# Altium integrated library TI Power Management Linear Regulator Single Channel LDO (0-350mA).IntLib: 1648 symbols (part 15 of 66)
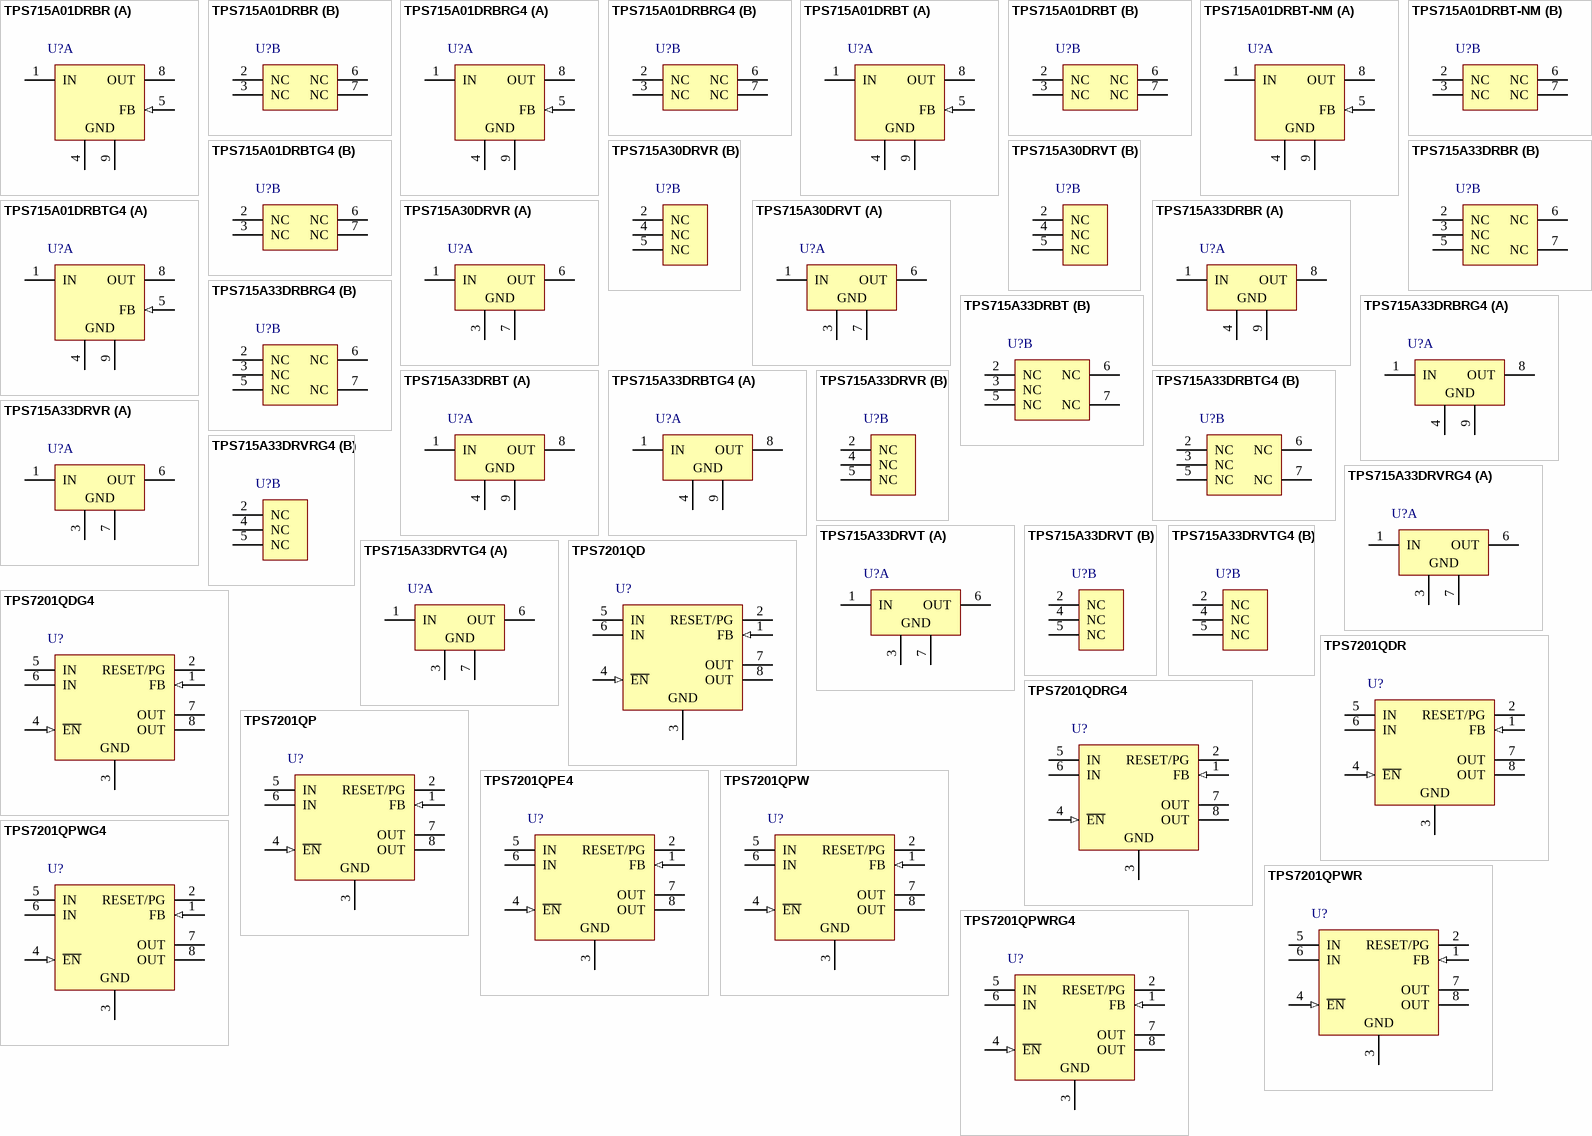
[diagram p56: symbols TPS715A01DRBR to TPS7201QPWRG4]

## TPS7201QPW
designator U?
Single Output LDO, 250 mA, Adjustable 1.2 to 9.75 V Output, 3 to 10 V Input, with Power Good Status Output, 8-pin TSSOP (PW), -40 to 125 degC, Green (RoHS & no Sb/Br); Manufacturer: Texas Instruments; PartNumber: TPS7201QPW; Iout(Max)(A): 0.25; Iq(Typ)(mA): 0.18; Power Good: TRUE; SubFamily: Single Channel LDO; Vdo(Typ)(mV): 190; Vin(Max)(V): 10; Vin(Min)(V): 3; Vout Adj(Max)(V): 9.75; Vout Adj(Min)(V): 1.2; DatasheetVersion: SLVS102G; PackageVersion: 4040064-2/G; PackageReference: PW8; PackageDescription: 8-Pin Plastic Small Outline, Body 4.4 x 3 mm, Pitch 0.65 mm; Supplier 1: Digi-Key; Supplier Part Number 1: TPS7201QPW-ND; Supplier 2: Mouser; Supplier Part Number 2: 595-TPS7201QPW; Eco-Plan: Green (RoHS & no Sb/Br); Mounting Technology: Surface Mount; Code_JEDEC: MO-153; ComponentLink1Description: Manufacturer URL; ComponentLink1URL: http://www.ti.com/; ComponentLink2Description: Datasheet; ComponentLink2URL: http://www.ti.com/general/docs/lit/getliterature.tsp?genericPartNumber=TPS7201&fileType=pdf; ComponentLink3Description: Package Specification; ComponentLink3URL: http://www.ti.com/litv/pdf/mtss001d
footprint TI-PW8_N (SOP, 8-Leads, Body 4.4x3mm, Pitch 0.65mm, IPC Medium Density)
footprint TI-PW8_L (SOP, 8-Leads, Body 4.4x3mm, Pitch 0.65mm, IPC High Density)
footprint TI-PW8_M (SOP, 8-Leads, Body 4.4x3mm, Pitch 0.65mm, IPC Low Density)
pins: 1 FB (in), 2 RESET/PG (oc), 3 GND (power), 4 ~{EN} (in), 5 IN (power), 6 IN (power), 7 OUT (power), 8 OUT (power)

## TPS7201QPWG4
designator U?
Single Output LDO, 250 mA, Adjustable 1.2 to 9.75 V Output, 3 to 10 V Input, with Power Good Status Output, 8-pin TSSOP (PW), -40 to 125 degC, Green (RoHS & no Sb/Br); Manufacturer: Texas Instruments; PartNumber: TPS7201QPWG4; Iout(Max)(A): 0.25; Iq(Typ)(mA): 0.18; Power Good: TRUE; SubFamily: Single Channel LDO; Vdo(Typ)(mV): 190; Vin(Max)(V): 10; Vin(Min)(V): 3; Vout Adj(Max)(V): 9.75; Vout Adj(Min)(V): 1.2; DatasheetVersion: SLVS102G; PackageVersion: 4040064-2/G; PackageReference: PW8; PackageDescription: 8-Pin Plastic Small Outline, Body 4.4 x 3 mm, Pitch 0.65 mm; Supplier 1: Digi-Key; Supplier Part Number 1: TPS7201QPWG4-ND; Supplier 2: Newark; Supplier Part Number 2: 67K8657; Supplier 3: Mouser; Supplier Part Number 3: 595-TPS7201QPWG4; Eco-Plan: Green (RoHS & no Sb/Br); Mounting Technology: Surface Mount; Code_JEDEC: MO-153; ComponentLink1Description: Manufacturer URL; ComponentLink1URL: http://www.ti.com/; ComponentLink2Description: Datasheet; ComponentLink2URL: http://www.ti.com/general/docs/lit/getliterature.tsp?genericPartNumber=TPS7201&fileType=pdf; ComponentLink3Description: Package Specification; ComponentLink3URL: http://www.ti.com/litv/pdf/mtss001d
footprint TI-PW8_N (SOP, 8-Leads, Body 4.4x3mm, Pitch 0.65mm, IPC Medium Density)
footprint TI-PW8_L (SOP, 8-Leads, Body 4.4x3mm, Pitch 0.65mm, IPC High Density)
footprint TI-PW8_M (SOP, 8-Leads, Body 4.4x3mm, Pitch 0.65mm, IPC Low Density)
pins: 1 FB (in), 2 RESET/PG (oc), 3 GND (power), 4 ~{EN} (in), 5 IN (power), 6 IN (power), 7 OUT (power), 8 OUT (power)

## TPS7201QPWR
designator U?
Single Output LDO, 250 mA, Adjustable 1.2 to 9.75 V Output, 3 to 10 V Input, with Power Good Status Output, 8-pin TSSOP (PW), -40 to 125 degC, Green (RoHS & no Sb/Br); Manufacturer: Texas Instruments; PartNumber: TPS7201QPWR; Iout(Max)(A): 0.25; Iq(Typ)(mA): 0.18; Power Good: TRUE; SubFamily: Single Channel LDO; Vdo(Typ)(mV): 190; Vin(Max)(V): 10; Vin(Min)(V): 3; Vout Adj(Max)(V): 9.75; Vout Adj(Min)(V): 1.2; DatasheetVersion: SLVS102G; PackageVersion: 4040064-2/G; PackageReference: PW8; PackageDescription: 8-Pin Plastic Small Outline, Body 4.4 x 3 mm, Pitch 0.65 mm; Supplier 1: Digi-Key; Supplier Part Number 1: 296-8053-2-ND; Supplier 2: Digi-Key; Supplier Part Number 2: 296-8053-1-ND; Supplier 3: Digi-Key; Supplier Part Number 3: 296-8053-6-ND; Supplier 4: Newark; Supplier Part Number 4: 77C0817; Supplier 5: Mouser; Supplier Part Number 5: 595-TPS7201QPWR; Eco-Plan: Green (RoHS & no Sb/Br); Mounting Technology: Surface Mount; Code_JEDEC: MO-153; ComponentLink1Description: Manufacturer URL; ComponentLink1URL: http://www.ti.com/; ComponentLink2Description: Datasheet; ComponentLink2URL: http://www.ti.com/general/docs/lit/getliterature.tsp?genericPartNumber=TPS7201&fileType=pdf; ComponentLink3Description: Package Specification; ComponentLink3URL: http://www.ti.com/litv/pdf/mtss001d
footprint TI-PW8_N (SOP, 8-Leads, Body 4.4x3mm, Pitch 0.65mm, IPC Medium Density)
footprint TI-PW8_L (SOP, 8-Leads, Body 4.4x3mm, Pitch 0.65mm, IPC High Density)
footprint TI-PW8_M (SOP, 8-Leads, Body 4.4x3mm, Pitch 0.65mm, IPC Low Density)
pins: 1 FB (in), 2 RESET/PG (oc), 3 GND (power), 4 ~{EN} (in), 5 IN (power), 6 IN (power), 7 OUT (power), 8 OUT (power)

## TPS7201QPWRG4
designator U?
Single Output LDO, 250 mA, Adjustable 1.2 to 9.75 V Output, 3 to 10 V Input, with Power Good Status Output, 8-pin TSSOP (PW), -40 to 125 degC, Green (RoHS & no Sb/Br); Manufacturer: Texas Instruments; PartNumber: TPS7201QPWRG4; Iout(Max)(A): 0.25; Iq(Typ)(mA): 0.18; Power Good: TRUE; SubFamily: Single Channel LDO; Vdo(Typ)(mV): 190; Vin(Max)(V): 10; Vin(Min)(V): 3; Vout Adj(Max)(V): 9.75; Vout Adj(Min)(V): 1.2; DatasheetVersion: SLVS102G; PackageVersion: 4040064-2/G; PackageReference: PW8; PackageDescription: 8-Pin Plastic Small Outline, Body 4.4 x 3 mm, Pitch 0.65 mm; Supplier 1: Digi-Key; Supplier Part Number 1: TPS7201QPWRG4-ND; Supplier 2: Mouser; Supplier Part Number 2: 595-TPS7201QPWRG4; Eco-Plan: Green (RoHS & no Sb/Br); Mounting Technology: Surface Mount; Code_JEDEC: MO-153; ComponentLink1Description: Manufacturer URL; ComponentLink1URL: http://www.ti.com/; ComponentLink2Description: Datasheet; ComponentLink2URL: http://www.ti.com/general/docs/lit/getliterature.tsp?genericPartNumber=TPS7201&fileType=pdf; ComponentLink3Description: Package Specification; ComponentLink3URL: http://www.ti.com/litv/pdf/mtss001d
footprint TI-PW8_N (SOP, 8-Leads, Body 4.4x3mm, Pitch 0.65mm, IPC Medium Density)
footprint TI-PW8_L (SOP, 8-Leads, Body 4.4x3mm, Pitch 0.65mm, IPC High Density)
footprint TI-PW8_M (SOP, 8-Leads, Body 4.4x3mm, Pitch 0.65mm, IPC Low Density)
pins: 1 FB (in), 2 RESET/PG (oc), 3 GND (power), 4 ~{EN} (in), 5 IN (power), 6 IN (power), 7 OUT (power), 8 OUT (power)

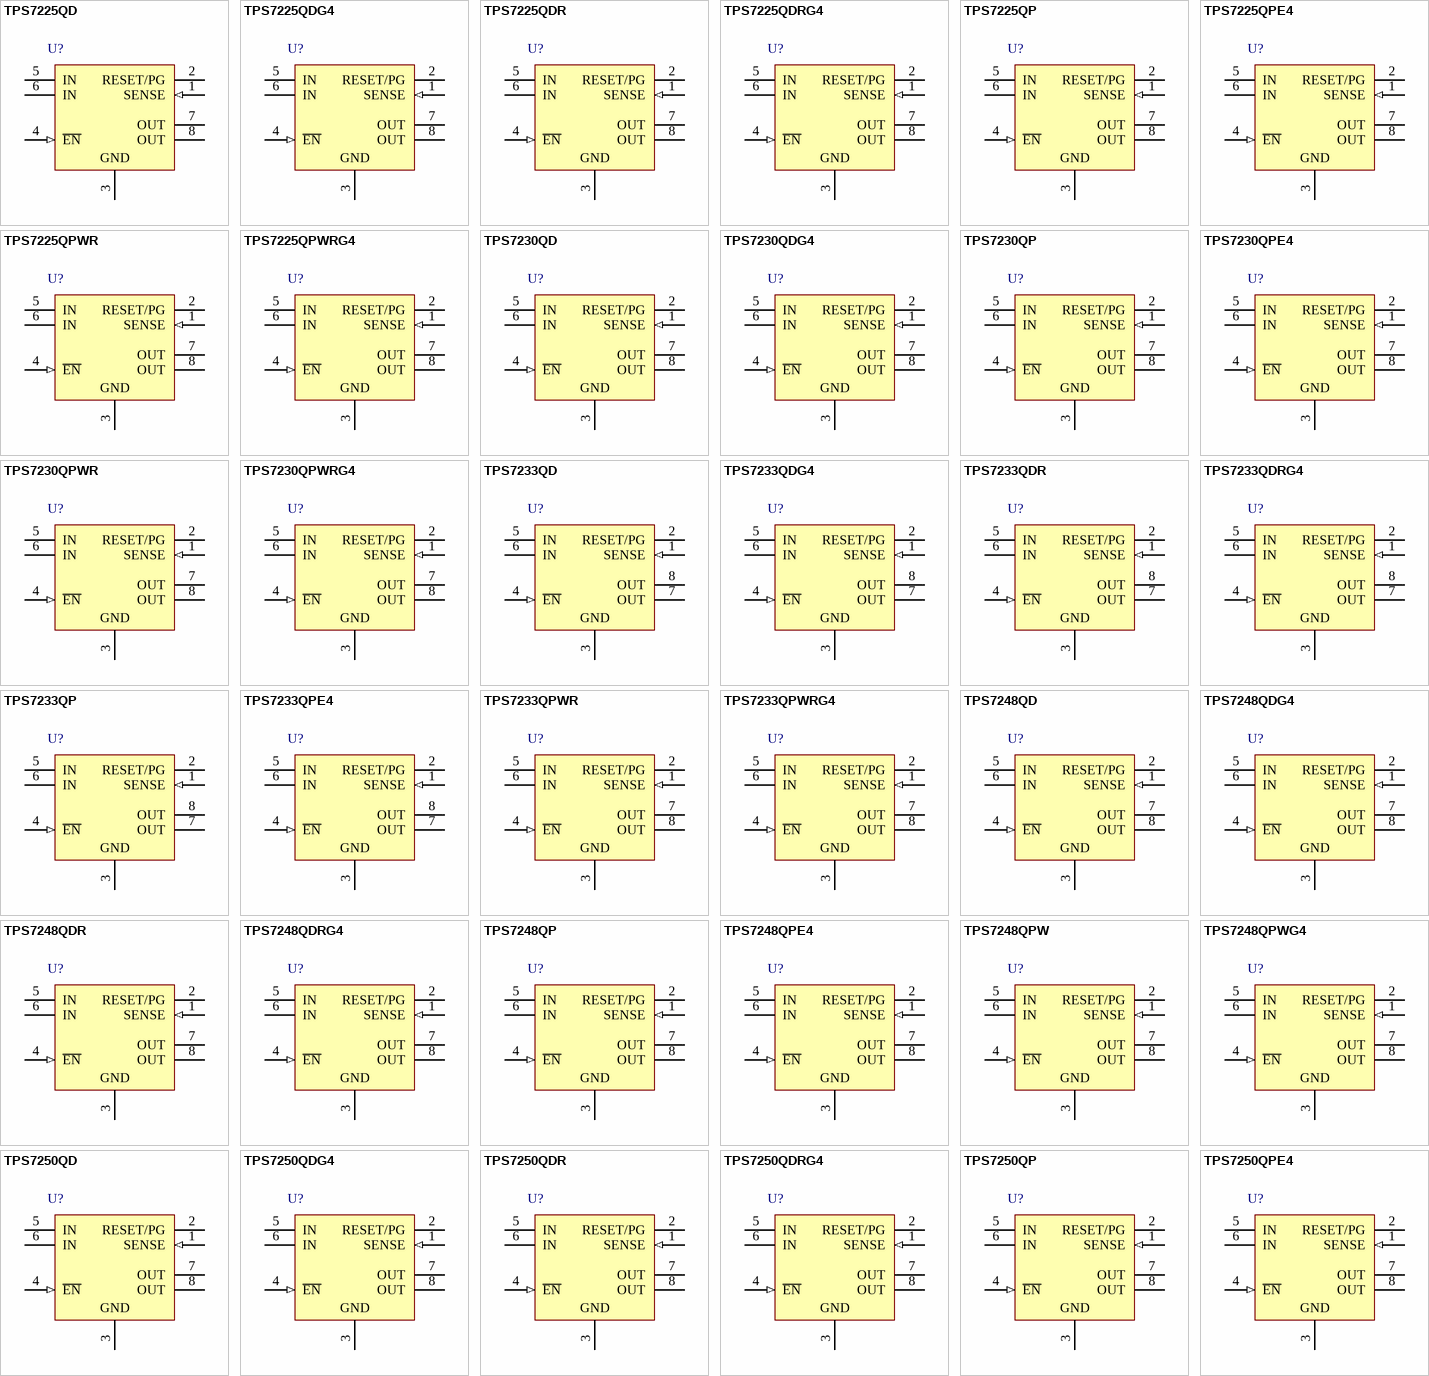
[diagram p10: symbols TPS7225QD to TPS7250QPE4]

## TPS7225QD
designator U?
Single Output LDO, 250 mA, Fixed 2.5 V Output, 3.65 to 10 V Input, with Low IQ, 8-pin SOIC (D), -55 to 150 degC, Green (RoHS & no Sb/Br); Manufacturer: Texas Instruments; PartNumber: TPS7225QD; Fixed Output Options(V): 2.5; Iout(Max)(A): 0.25; Iq(Typ)(mA): 0.18; Power Good: TRUE; Rating: Catalog; SubFamily: Single Channel LDO; Vdo(Typ)(mV): 560; Vin(Max)(V): 10; Vin(Min)(V): 3.65; DatasheetVersion: SLVS102G; PackageVersion: 4040047-3/M; PackageReference: D8; PackageDescription: 8-Pin Plastic Small Outline, Body 4.9 x 3.9 mm, Pitch 1.27 mm; Supplier 1: Digi-Key; Supplier Part Number 1: 296-1962-5-ND; Supplier 2: Newark; Supplier Part Number 2: 20M5896; Supplier 3: Mouser; Supplier Part Number 3: 595-TPS7225QD; Eco-Plan: Green (RoHS & no Sb/Br); Vout Adj(Max)(V): 2.5; Vout Adj(Min)(V): 2.5; Mounting Technology: Surface Mount; Code_JEDEC: MS-012; ComponentLink1Description: Manufacturer URL; ComponentLink1URL: http://www.ti.com/; ComponentLink2Description: Datasheet; ComponentLink2URL: http://www.ti.com/general/docs/lit/getliterature.tsp?genericPartNumber=TPS7225&fileType=pdf; ComponentLink3Description: Package Specification; ComponentLink3URL: http://www.ti.com/litv/pdf/msoi002j; ComponentLink4Description: URL Link1; ComponentLink4URL: Samples URL:http://www.ti.com/product/tps7225#samples
footprint TI-D8_N (SOIC, 8-Leads, Body 4.9x3.9mm, Pitch 1.27mm, IPC Medium Density)
footprint TI-D8_L (SOIC, 8-Leads, Body 4.9x3.9mm, Pitch 1.27mm, IPC High Density)
footprint TI-D8_M (SOIC, 8-Leads, Body 4.9x3.9mm, Pitch 1.27mm, IPC Low Density)
pins: 1 SENSE (in), 2 RESET/PG (oc), 3 GND (power), 4 ~{EN} (in), 5 IN (power), 6 IN (power), 7 OUT (power), 8 OUT (power)

## TPS7225QDG4
designator U?
Single Output LDO, 250 mA, Fixed 2.5 V Output, 3.65 to 10 V Input, with Low IQ, 8-pin SOIC (D), -55 to 150 degC, Green (RoHS & no Sb/Br); Manufacturer: Texas Instruments; PartNumber: TPS7225QDG4; Fixed Output Options(V): 2.5; Iout(Max)(A): 0.25; Iq(Typ)(mA): 0.18; Power Good: TRUE; Rating: Catalog; SubFamily: Single Channel LDO; Vdo(Typ)(mV): 560; Vin(Max)(V): 10; Vin(Min)(V): 3.65; DatasheetVersion: SLVS102G; PackageVersion: 4040047-3/M; PackageReference: D8; PackageDescription: 8-Pin Plastic Small Outline, Body 4.9 x 3.9 mm, Pitch 1.27 mm; Supplier 1: Digi-Key; Supplier Part Number 1: TPS7225QDG4-ND; Supplier 2: Mouser; Supplier Part Number 2: 595-TPS7225QDG4; Eco-Plan: Green (RoHS & no Sb/Br); Vout Adj(Max)(V): 2.5; Vout Adj(Min)(V): 2.5; Mounting Technology: Surface Mount; Code_JEDEC: MS-012; ComponentLink1Description: Manufacturer URL; ComponentLink1URL: http://www.ti.com/; ComponentLink2Description: Datasheet; ComponentLink2URL: http://www.ti.com/general/docs/lit/getliterature.tsp?genericPartNumber=TPS7225&fileType=pdf; ComponentLink3Description: Package Specification; ComponentLink3URL: http://www.ti.com/litv/pdf/msoi002j; ComponentLink4Description: URL Link1; ComponentLink4URL: Samples URL:http://www.ti.com/product/tps7225#samples
footprint TI-D8_N (SOIC, 8-Leads, Body 4.9x3.9mm, Pitch 1.27mm, IPC Medium Density)
footprint TI-D8_L (SOIC, 8-Leads, Body 4.9x3.9mm, Pitch 1.27mm, IPC High Density)
footprint TI-D8_M (SOIC, 8-Leads, Body 4.9x3.9mm, Pitch 1.27mm, IPC Low Density)
pins: 1 SENSE (in), 2 RESET/PG (oc), 3 GND (power), 4 ~{EN} (in), 5 IN (power), 6 IN (power), 7 OUT (power), 8 OUT (power)

## TPS7225QDR
designator U?
Single Output LDO, 250 mA, Fixed 2.5 V Output, 3.65 to 10 V Input, with Low IQ, 8-pin SOIC (D), -55 to 150 degC, Green (RoHS & no Sb/Br); Manufacturer: Texas Instruments; PartNumber: TPS7225QDR; Fixed Output Options(V): 2.5; Iout(Max)(A): 0.25; Iq(Typ)(mA): 0.18; Power Good: TRUE; Rating: Catalog; SubFamily: Single Channel LDO; Vdo(Typ)(mV): 560; Vin(Max)(V): 10; Vin(Min)(V): 3.65; DatasheetVersion: SLVS102G; PackageVersion: 4040047-3/M; PackageReference: D8; PackageDescription: 8-Pin Plastic Small Outline, Body 4.9 x 3.9 mm, Pitch 1.27 mm; Supplier 1: Digi-Key; Supplier Part Number 1: TPS7225QDR-ND; Supplier 2: Mouser; Supplier Part Number 2: 595-TPS7225QDR; Eco-Plan: Green (RoHS & no Sb/Br); Vout Adj(Max)(V): 2.5; Vout Adj(Min)(V): 2.5; Mounting Technology: Surface Mount; Code_JEDEC: MS-012; ComponentLink1Description: Manufacturer URL; ComponentLink1URL: http://www.ti.com/; ComponentLink2Description: Datasheet; ComponentLink2URL: http://www.ti.com/general/docs/lit/getliterature.tsp?genericPartNumber=TPS7225&fileType=pdf; ComponentLink3Description: Package Specification; ComponentLink3URL: http://www.ti.com/litv/pdf/msoi002j; ComponentLink4Description: URL Link1; ComponentLink4URL: Samples URL:http://www.ti.com/product/tps7225#samples
footprint TI-D8_N (SOIC, 8-Leads, Body 4.9x3.9mm, Pitch 1.27mm, IPC Medium Density)
footprint TI-D8_L (SOIC, 8-Leads, Body 4.9x3.9mm, Pitch 1.27mm, IPC High Density)
footprint TI-D8_M (SOIC, 8-Leads, Body 4.9x3.9mm, Pitch 1.27mm, IPC Low Density)
pins: 1 SENSE (in), 2 RESET/PG (oc), 3 GND (power), 4 ~{EN} (in), 5 IN (power), 6 IN (power), 7 OUT (power), 8 OUT (power)

## TPS7225QDRG4
designator U?
Single Output LDO, 250 mA, Fixed 2.5 V Output, 3.65 to 10 V Input, with Low IQ, 8-pin SOIC (D), -55 to 150 degC, Green (RoHS & no Sb/Br); Manufacturer: Texas Instruments; PartNumber: TPS7225QDRG4; Fixed Output Options(V): 2.5; Iout(Max)(A): 0.25; Iq(Typ)(mA): 0.18; Power Good: TRUE; Rating: Catalog; SubFamily: Single Channel LDO; Vdo(Typ)(mV): 560; Vin(Max)(V): 10; Vin(Min)(V): 3.65; DatasheetVersion: SLVS102G; PackageVersion: 4040047-3/M; PackageReference: D8; PackageDescription: 8-Pin Plastic Small Outline, Body 4.9 x 3.9 mm, Pitch 1.27 mm; Supplier 1: Digi-Key; Supplier Part Number 1: TPS7225QDRG4-ND; Supplier 2: Mouser; Supplier Part Number 2: 595-TPS7225QDRG4; Eco-Plan: Green (RoHS & no Sb/Br); Vout Adj(Max)(V): 2.5; Vout Adj(Min)(V): 2.5; Mounting Technology: Surface Mount; Code_JEDEC: MS-012; ComponentLink1Description: Manufacturer URL; ComponentLink1URL: http://www.ti.com/; ComponentLink2Description: Datasheet; ComponentLink2URL: http://www.ti.com/general/docs/lit/getliterature.tsp?genericPartNumber=TPS7225&fileType=pdf; ComponentLink3Description: Package Specification; ComponentLink3URL: http://www.ti.com/litv/pdf/msoi002j; ComponentLink4Description: URL Link1; ComponentLink4URL: Samples URL:http://www.ti.com/product/tps7225#samples
footprint TI-D8_N (SOIC, 8-Leads, Body 4.9x3.9mm, Pitch 1.27mm, IPC Medium Density)
footprint TI-D8_L (SOIC, 8-Leads, Body 4.9x3.9mm, Pitch 1.27mm, IPC High Density)
footprint TI-D8_M (SOIC, 8-Leads, Body 4.9x3.9mm, Pitch 1.27mm, IPC Low Density)
pins: 1 SENSE (in), 2 RESET/PG (oc), 3 GND (power), 4 ~{EN} (in), 5 IN (power), 6 IN (power), 7 OUT (power), 8 OUT (power)

## TPS7225QP
designator U?
Single Output LDO, 250 mA, Fixed 2.5 V Output, 3.65 to 10 V Input, with Low IQ, 8-pin PDIP (P), -55 to 150 degC, Pb-Free (RoHS); Manufacturer: Texas Instruments; PartNumber: TPS7225QP; Fixed Output Options(V): 2.5; Iout(Max)(A): 0.25; Iq(Typ)(mA): 0.18; Power Good: TRUE; Rating: Catalog; SubFamily: Single Channel LDO; Vdo(Typ)(mV): 560; Vin(Max)(V): 10; Vin(Min)(V): 3.65; DatasheetVersion: SLVS102G; PackageVersion: 4040082/E; PackageReference: P8; PackageDescription: 8-Pin Plastic In-Line, Body 9.59 x 6.35 mm, 2.54 mm Pitch; Supplier 1: Digi-Key; Supplier Part Number 1: 296-1963-5-ND; Supplier 2: Mouser; Supplier Part Number 2: 595-TPS7225QP; Eco-Plan: Pb-Free (RoHS); Vout Adj(Max)(V): 2.5; Vout Adj(Min)(V): 2.5; Mounting Technology: Through Hole; Code_JEDEC: MS-001; ComponentLink1Description: Manufacturer URL; ComponentLink1URL: http://www.ti.com/; ComponentLink2Description: Datasheet; ComponentLink2URL: http://www.ti.com/general/docs/lit/getliterature.tsp?genericPartNumber=TPS7225&fileType=pdf; ComponentLink3Description: Package Specification; ComponentLink3URL: http://www.ti.com/litv/pdf/mpdi001b; ComponentLink4Description: URL Link1; ComponentLink4URL: Samples URL:http://www.ti.com/product/tps7225#samples
footprint TI-P8 (DIP, 8-Leads, Body 9.59x6.35mm, Pitch 2.54mm)
pins: 1 SENSE (in), 2 RESET/PG (oc), 3 GND (power), 4 ~{EN} (in), 5 IN (power), 6 IN (power), 7 OUT (power), 8 OUT (power)

## TPS7225QPE4
designator U?
Single Output LDO, 250 mA, Fixed 2.5 V Output, 3.65 to 10 V Input, with Low IQ, 8-pin PDIP (P), -55 to 150 degC, Pb-Free (RoHS); Manufacturer: Texas Instruments; PartNumber: TPS7225QPE4; Fixed Output Options(V): 2.5; Iout(Max)(A): 0.25; Iq(Typ)(mA): 0.18; Power Good: TRUE; Rating: Catalog; SubFamily: Single Channel LDO; Vdo(Typ)(mV): 560; Vin(Max)(V): 10; Vin(Min)(V): 3.65; DatasheetVersion: SLVS102G; PackageVersion: 4040082/E; PackageReference: P8; PackageDescription: 8-Pin Plastic In-Line, Body 9.59 x 6.35 mm, 2.54 mm Pitch; Supplier 1: Digi-Key; Supplier Part Number 1: TPS7225QPE4-ND; Supplier 2: Mouser; Supplier Part Number 2: 595-TPS7225QPE4; Eco-Plan: Pb-Free (RoHS); Vout Adj(Max)(V): 2.5; Vout Adj(Min)(V): 2.5; Mounting Technology: Through Hole; Code_JEDEC: MS-001; ComponentLink1Description: Manufacturer URL; ComponentLink1URL: http://www.ti.com/; ComponentLink2Description: Datasheet; ComponentLink2URL: http://www.ti.com/general/docs/lit/getliterature.tsp?genericPartNumber=TPS7225&fileType=pdf; ComponentLink3Description: Package Specification; ComponentLink3URL: http://www.ti.com/litv/pdf/mpdi001b; ComponentLink4Description: URL Link1; ComponentLink4URL: Samples URL:http://www.ti.com/product/tps7225#samples
footprint TI-P8 (DIP, 8-Leads, Body 9.59x6.35mm, Pitch 2.54mm)
pins: 1 SENSE (in), 2 RESET/PG (oc), 3 GND (power), 4 ~{EN} (in), 5 IN (power), 6 IN (power), 7 OUT (power), 8 OUT (power)

## TPS7225QPWR
designator U?
Single Output LDO, 250 mA, Fixed 2.5 V Output, 3.65 to 10 V Input, with Low IQ, 8-pin TSSOP (PW), -55 to 150 degC, Green (RoHS & no Sb/Br); Manufacturer: Texas Instruments; PartNumber: TPS7225QPWR; Fixed Output Options(V): 2.5; Iout(Max)(A): 0.25; Iq(Typ)(mA): 0.18; Power Good: TRUE; Rating: Catalog; SubFamily: Single Channel LDO; Vdo(Typ)(mV): 560; Vin(Max)(V): 10; Vin(Min)(V): 3.65; DatasheetVersion: SLVS102G; PackageVersion: 4040064-2/G; PackageReference: PW8; PackageDescription: 8-Pin Plastic Small Outline, Body 4.4 x 3 mm, Pitch 0.65 mm; Supplier 1: Digi-Key; Supplier Part Number 1: 296-8054-2-ND; Supplier 2: Digi-Key; Supplier Part Number 2: 296-8054-1-ND; Supplier 3: Digi-Key; Supplier Part Number 3: 296-8054-6-ND; Supplier 4: Mouser; Supplier Part Number 4: 595-TPS7225QPWR; Eco-Plan: Green (RoHS & no Sb/Br); Vout Adj(Max)(V): 2.5; Vout Adj(Min)(V): 2.5; Mounting Technology: Surface Mount; Code_JEDEC: MO-153; ComponentLink1Description: Manufacturer URL; ComponentLink1URL: http://www.ti.com/; ComponentLink2Description: Datasheet; ComponentLink2URL: http://www.ti.com/general/docs/lit/getliterature.tsp?genericPartNumber=TPS7225&fileType=pdf; ComponentLink3Description: Package Specification; ComponentLink3URL: http://www.ti.com/litv/pdf/mtss001d; ComponentLink4Description: URL Link1; ComponentLink4URL: Samples URL:http://www.ti.com/product/tps7225#samples
footprint TI-PW8_N (SOP, 8-Leads, Body 4.4x3mm, Pitch 0.65mm, IPC Medium Density)
footprint TI-PW8_L (SOP, 8-Leads, Body 4.4x3mm, Pitch 0.65mm, IPC High Density)
footprint TI-PW8_M (SOP, 8-Leads, Body 4.4x3mm, Pitch 0.65mm, IPC Low Density)
pins: 1 SENSE (in), 2 RESET/PG (oc), 3 GND (power), 4 ~{EN} (in), 5 IN (power), 6 IN (power), 7 OUT (power), 8 OUT (power)

## TPS7225QPWRG4
designator U?
Single Output LDO, 250 mA, Fixed 2.5 V Output, 3.65 to 10 V Input, with Low IQ, 8-pin TSSOP (PW), -55 to 150 degC, Green (RoHS & no Sb/Br); Manufacturer: Texas Instruments; PartNumber: TPS7225QPWRG4; Fixed Output Options(V): 2.5; Iout(Max)(A): 0.25; Iq(Typ)(mA): 0.18; Power Good: TRUE; Rating: Catalog; SubFamily: Single Channel LDO; Vdo(Typ)(mV): 560; Vin(Max)(V): 10; Vin(Min)(V): 3.65; DatasheetVersion: SLVS102G; PackageVersion: 4040064-2/G; PackageReference: PW8; PackageDescription: 8-Pin Plastic Small Outline, Body 4.4 x 3 mm, Pitch 0.65 mm; Supplier 1: Digi-Key; Supplier Part Number 1: TPS7225QPWRG4-ND; Supplier 2: Newark; Supplier Part Number 2: 30M1860; Supplier 3: Mouser; Supplier Part Number 3: 595-TPS7225QPWRG4; Eco-Plan: Green (RoHS & no Sb/Br); Vout Adj(Max)(V): 2.5; Vout Adj(Min)(V): 2.5; Mounting Technology: Surface Mount; Code_JEDEC: MO-153; ComponentLink1Description: Manufacturer URL; ComponentLink1URL: http://www.ti.com/; ComponentLink2Description: Datasheet; ComponentLink2URL: http://www.ti.com/general/docs/lit/getliterature.tsp?genericPartNumber=TPS7225&fileType=pdf; ComponentLink3Description: Package Specification; ComponentLink3URL: http://www.ti.com/litv/pdf/mtss001d; ComponentLink4Description: URL Link1; ComponentLink4URL: Samples URL:http://www.ti.com/product/tps7225#samples
footprint TI-PW8_N (SOP, 8-Leads, Body 4.4x3mm, Pitch 0.65mm, IPC Medium Density)
footprint TI-PW8_L (SOP, 8-Leads, Body 4.4x3mm, Pitch 0.65mm, IPC High Density)
footprint TI-PW8_M (SOP, 8-Leads, Body 4.4x3mm, Pitch 0.65mm, IPC Low Density)
pins: 1 SENSE (in), 2 RESET/PG (oc), 3 GND (power), 4 ~{EN} (in), 5 IN (power), 6 IN (power), 7 OUT (power), 8 OUT (power)

## TPS7230QD
designator U?
Single Output LDO, 250 mA, Fixed 3 V Output, 3.96 to 10 V Input, with Low IQ, 8-pin SOIC (D), -55 to 150 degC, Green (RoHS & no Sb/Br); Manufacturer: Texas Instruments; PartNumber: TPS7230QD; Fixed Output Options(V): 3; Iout(Max)(A): 0.25; Iq(Typ)(mA): 0.18; Power Good: TRUE; SubFamily: Single Channel LDO; Vdo(Typ)(mV): 390; Vin(Max)(V): 10; Vin(Min)(V): 3.96; DatasheetVersion: SLVS102G; PackageVersion: 4040047-3/M; PackageReference: D8; PackageDescription: 8-Pin Plastic Small Outline, Body 4.9 x 3.9 mm, Pitch 1.27 mm; Supplier 1: Digi-Key; Supplier Part Number 1: 296-1964-5-ND; Supplier 2: Mouser; Supplier Part Number 2: 595-TPS7230QD; Eco-Plan: Green (RoHS & no Sb/Br); Vout Adj(Max)(V): 3; Vout Adj(Min)(V): 3; Mounting Technology: Surface Mount; Code_JEDEC: MS-012; ComponentLink1Description: Manufacturer URL; ComponentLink1URL: http://www.ti.com/; ComponentLink2Description: Datasheet; ComponentLink2URL: http://www.ti.com/general/docs/lit/getliterature.tsp?genericPartNumber=TPS7230&fileType=pdf; ComponentLink3Description: Package Specification; ComponentLink3URL: http://www.ti.com/litv/pdf/msoi002j
footprint TI-D8_N (SOIC, 8-Leads, Body 4.9x3.9mm, Pitch 1.27mm, IPC Medium Density)
footprint TI-D8_L (SOIC, 8-Leads, Body 4.9x3.9mm, Pitch 1.27mm, IPC High Density)
footprint TI-D8_M (SOIC, 8-Leads, Body 4.9x3.9mm, Pitch 1.27mm, IPC Low Density)
pins: 1 SENSE (in), 2 RESET/PG (oc), 3 GND (power), 4 ~{EN} (in), 5 IN (power), 6 IN (power), 7 OUT (power), 8 OUT (power)

## TPS7230QDG4
designator U?
Single Output LDO, 250 mA, Fixed 3 V Output, 3.96 to 10 V Input, with Low IQ, 8-pin SOIC (D), -55 to 150 degC, Green (RoHS & no Sb/Br); Manufacturer: Texas Instruments; PartNumber: TPS7230QDG4; Fixed Output Options(V): 3; Iout(Max)(A): 0.25; Iq(Typ)(mA): 0.18; Power Good: TRUE; SubFamily: Single Channel LDO; Vdo(Typ)(mV): 390; Vin(Max)(V): 10; Vin(Min)(V): 3.96; DatasheetVersion: SLVS102G; PackageVersion: 4040047-3/M; PackageReference: D8; PackageDescription: 8-Pin Plastic Small Outline, Body 4.9 x 3.9 mm, Pitch 1.27 mm; Supplier 1: Digi-Key; Supplier Part Number 1: TPS7230QDG4-ND; Supplier 2: Newark; Supplier Part Number 2: 41M5908; Supplier 3: Mouser; Supplier Part Number 3: 595-TPS7230QDG4; Eco-Plan: Green (RoHS & no Sb/Br); Vout Adj(Max)(V): 3; Vout Adj(Min)(V): 3; Mounting Technology: Surface Mount; Code_JEDEC: MS-012; ComponentLink1Description: Manufacturer URL; ComponentLink1URL: http://www.ti.com/; ComponentLink2Description: Datasheet; ComponentLink2URL: http://www.ti.com/general/docs/lit/getliterature.tsp?genericPartNumber=TPS7230&fileType=pdf; ComponentLink3Description: Package Specification; ComponentLink3URL: http://www.ti.com/litv/pdf/msoi002j
footprint TI-D8_N (SOIC, 8-Leads, Body 4.9x3.9mm, Pitch 1.27mm, IPC Medium Density)
footprint TI-D8_L (SOIC, 8-Leads, Body 4.9x3.9mm, Pitch 1.27mm, IPC High Density)
footprint TI-D8_M (SOIC, 8-Leads, Body 4.9x3.9mm, Pitch 1.27mm, IPC Low Density)
pins: 1 SENSE (in), 2 RESET/PG (oc), 3 GND (power), 4 ~{EN} (in), 5 IN (power), 6 IN (power), 7 OUT (power), 8 OUT (power)

## TPS7230QP
designator U?
Single Output LDO, 250 mA, Fixed 3 V Output, 3.96 to 10 V Input, with Low IQ, 8-pin PDIP (P), -40 to 125 degC, Pb-Free (RoHS); Manufacturer: Texas Instruments; PartNumber: TPS7230QP; Fixed Output Options(V): 3; Iout(Max)(A): 0.25; Iq(Typ)(mA): 0.18; Power Good: TRUE; SubFamily: Single Channel LDO; Vdo(Typ)(mV): 390; Vin(Max)(V): 10; Vin(Min)(V): 3.96; DatasheetVersion: SLVS102G; PackageVersion: 4040082/E; PackageReference: P8; PackageDescription: 8-Pin Plastic In-Line, Body 9.59 x 6.35 mm, 2.54 mm Pitch; Supplier 1: Digi-Key; Supplier Part Number 1: 296-1965-5-ND; Supplier 2: Newark; Supplier Part Number 2: 20M5898; Supplier 3: Mouser; Supplier Part Number 3: 595-TPS7230QP; Eco-Plan: Pb-Free (RoHS); Vout Adj(Max)(V): 3; Vout Adj(Min)(V): 3; Mounting Technology: Through Hole; Code_JEDEC: MS-001; ComponentLink1Description: Manufacturer URL; ComponentLink1URL: http://www.ti.com/; ComponentLink2Description: Datasheet; ComponentLink2URL: http://www.ti.com/general/docs/lit/getliterature.tsp?genericPartNumber=TPS7230&fileType=pdf; ComponentLink3Description: Package Specification; ComponentLink3URL: http://www.ti.com/litv/pdf/mpdi001b
footprint TI-P8 (DIP, 8-Leads, Body 9.59x6.35mm, Pitch 2.54mm)
pins: 1 SENSE (in), 2 RESET/PG (oc), 3 GND (power), 4 ~{EN} (in), 5 IN (power), 6 IN (power), 7 OUT (power), 8 OUT (power)

## TPS7230QPE4
designator U?
Single Output LDO, 250 mA, Fixed 3 V Output, 3.96 to 10 V Input, with Low IQ, 8-pin PDIP (P), -40 to 125 degC, Pb-Free (RoHS); Manufacturer: Texas Instruments; PartNumber: TPS7230QPE4; Fixed Output Options(V): 3; Iout(Max)(A): 0.25; Iq(Typ)(mA): 0.18; Power Good: TRUE; SubFamily: Single Channel LDO; Vdo(Typ)(mV): 390; Vin(Max)(V): 10; Vin(Min)(V): 3.96; DatasheetVersion: SLVS102G; PackageVersion: 4040082/E; PackageReference: P8; PackageDescription: 8-Pin Plastic In-Line, Body 9.59 x 6.35 mm, 2.54 mm Pitch; Supplier 1: Digi-Key; Supplier Part Number 1: TPS7230QPE4-ND; Supplier 2: Newark; Supplier Part Number 2: 24K6092; Supplier 3: Mouser; Supplier Part Number 3: 595-TPS7230QPE4; Eco-Plan: Pb-Free (RoHS); Vout Adj(Max)(V): 3; Vout Adj(Min)(V): 3; Mounting Technology: Through Hole; Code_JEDEC: MS-001; ComponentLink1Description: Manufacturer URL; ComponentLink1URL: http://www.ti.com/; ComponentLink2Description: Datasheet; ComponentLink2URL: http://www.ti.com/general/docs/lit/getliterature.tsp?genericPartNumber=TPS7230&fileType=pdf; ComponentLink3Description: Package Specification; ComponentLink3URL: http://www.ti.com/litv/pdf/mpdi001b
footprint TI-P8 (DIP, 8-Leads, Body 9.59x6.35mm, Pitch 2.54mm)
pins: 1 SENSE (in), 2 RESET/PG (oc), 3 GND (power), 4 ~{EN} (in), 5 IN (power), 6 IN (power), 7 OUT (power), 8 OUT (power)

## TPS7230QPWR
designator U?
Single Output LDO, 250 mA, Fixed 3 V Output, 3.96 to 10 V Input, with Low IQ, 8-pin TSSOP (PW), -40 to 125 degC, Green (RoHS & no Sb/Br); Manufacturer: Texas Instruments; PartNumber: TPS7230QPWR; Fixed Output Options(V): 3; Iout(Max)(A): 0.25; Iq(Typ)(mA): 0.18; Power Good: TRUE; SubFamily: Single Channel LDO; Vdo(Typ)(mV): 390; Vin(Max)(V): 10; Vin(Min)(V): 3.96; DatasheetVersion: SLVS102G; PackageVersion: 4040064-2/G; PackageReference: PW8; PackageDescription: 8-Pin Plastic Small Outline, Body 4.4 x 3 mm, Pitch 0.65 mm; Supplier 1: Digi-Key; Supplier Part Number 1: 296-8055-2-ND; Supplier 2: Digi-Key; Supplier Part Number 2: 296-8055-1-ND; Supplier 3: Digi-Key; Supplier Part Number 3: 296-8055-6-ND; Supplier 4: Mouser; Supplier Part Number 4: 595-TPS7230QPWR; Eco-Plan: Green (RoHS & no Sb/Br); Vout Adj(Max)(V): 3; Vout Adj(Min)(V): 3; Mounting Technology: Surface Mount; Code_JEDEC: MO-153; ComponentLink1Description: Manufacturer URL; ComponentLink1URL: http://www.ti.com/; ComponentLink2Description: Datasheet; ComponentLink2URL: http://www.ti.com/general/docs/lit/getliterature.tsp?genericPartNumber=TPS7230&fileType=pdf; ComponentLink3Description: Package Specification; ComponentLink3URL: http://www.ti.com/litv/pdf/mtss001d
footprint TI-PW8_N (SOP, 8-Leads, Body 4.4x3mm, Pitch 0.65mm, IPC Medium Density)
footprint TI-PW8_L (SOP, 8-Leads, Body 4.4x3mm, Pitch 0.65mm, IPC High Density)
footprint TI-PW8_M (SOP, 8-Leads, Body 4.4x3mm, Pitch 0.65mm, IPC Low Density)
pins: 1 SENSE (in), 2 RESET/PG (oc), 3 GND (power), 4 ~{EN} (in), 5 IN (power), 6 IN (power), 7 OUT (power), 8 OUT (power)

## TPS7230QPWRG4
designator U?
Single Output LDO, 250 mA, Fixed 3 V Output, 3.96 to 10 V Input, with Low IQ, 8-pin TSSOP (PW), -40 to 125 degC, Green (RoHS & no Sb/Br); Manufacturer: Texas Instruments; PartNumber: TPS7230QPWRG4; Fixed Output Options(V): 3; Iout(Max)(A): 0.25; Iq(Typ)(mA): 0.18; Power Good: TRUE; SubFamily: Single Channel LDO; Vdo(Typ)(mV): 390; Vin(Max)(V): 10; Vin(Min)(V): 3.96; DatasheetVersion: SLVS102G; PackageVersion: 4040064-2/G; PackageReference: PW8; PackageDescription: 8-Pin Plastic Small Outline, Body 4.4 x 3 mm, Pitch 0.65 mm; Supplier 1: Digi-Key; Supplier Part Number 1: TPS7230QPWRG4-ND; Supplier 2: Mouser; Supplier Part Number 2: 595-TPS7230QPWRG4; Eco-Plan: Green (RoHS & no Sb/Br); Vout Adj(Max)(V): 3; Vout Adj(Min)(V): 3; Mounting Technology: Surface Mount; Code_JEDEC: MO-153; ComponentLink1Description: Manufacturer URL; ComponentLink1URL: http://www.ti.com/; ComponentLink2Description: Datasheet; ComponentLink2URL: http://www.ti.com/general/docs/lit/getliterature.tsp?genericPartNumber=TPS7230&fileType=pdf; ComponentLink3Description: Package Specification; ComponentLink3URL: http://www.ti.com/litv/pdf/mtss001d
footprint TI-PW8_N (SOP, 8-Leads, Body 4.4x3mm, Pitch 0.65mm, IPC Medium Density)
footprint TI-PW8_L (SOP, 8-Leads, Body 4.4x3mm, Pitch 0.65mm, IPC High Density)
footprint TI-PW8_M (SOP, 8-Leads, Body 4.4x3mm, Pitch 0.65mm, IPC Low Density)
pins: 1 SENSE (in), 2 RESET/PG (oc), 3 GND (power), 4 ~{EN} (in), 5 IN (power), 6 IN (power), 7 OUT (power), 8 OUT (power)

## TPS7233QD
designator U?
Single Output LDO, 250 mA, Fixed 3.3 V Output, 4 to 10 V Input, with Low IQ, 8-pin SOIC (D), -40 to 125 degC, Green (RoHS & no Sb/Br); Manufacturer: Texas Instruments; PartNumber: TPS7233QD; Fixed Output Options(V): 3.3; Iout(Max)(A): 0.25; Iq(Typ)(mA): 0.18; Power Good: TRUE; SubFamily: Single Channel LDO; Vdo(Typ)(mV): 360; Vin(Max)(V): 10; Vin(Min)(V): 3.98; DatasheetVersion: SLVS102G; PackageVersion: 4040047-3/M; PackageReference: D8; PackageDescription: 8-Pin Plastic Small Outline, Body 4.9 x 3.9 mm, Pitch 1.27 mm; Supplier 1: Digi-Key; Supplier Part Number 1: 296-1966-5-ND; Supplier 2: Newark; Supplier Part Number 2: 52F2799; Supplier 3: Mouser; Supplier Part Number 3: 595-TPS7233QD; Eco-Plan: Green (RoHS & no Sb/Br); Vout Adj(Max)(V): 3.3; Vout Adj(Min)(V): 3.3; Mounting Technology: Surface Mount; Code_JEDEC: MS-012; ComponentLink1Description: Manufacturer URL; ComponentLink1URL: http://www.ti.com/; ComponentLink2Description: Datasheet; ComponentLink2URL: http://www.ti.com/general/docs/lit/getliterature.tsp?genericPartNumber=TPS7233&fileType=pdf; ComponentLink3Description: Package Specification; ComponentLink3URL: http://www.ti.com/litv/pdf/msoi002j
footprint TI-D8_N (SOIC, 8-Leads, Body 4.9x3.9mm, Pitch 1.27mm, IPC Medium Density)
footprint TI-D8_L (SOIC, 8-Leads, Body 4.9x3.9mm, Pitch 1.27mm, IPC High Density)
footprint TI-D8_M (SOIC, 8-Leads, Body 4.9x3.9mm, Pitch 1.27mm, IPC Low Density)
pins: 1 SENSE (in), 2 RESET/PG, 3 GND (power), 4 ~{EN} (in), 5 IN (power), 6 IN (power), 7 OUT (power), 8 OUT (power)

## TPS7233QDG4
designator U?
Single Output LDO, 250 mA, Fixed 3.3 V Output, 4 to 10 V Input, with Low IQ, 8-pin SOIC (D), -40 to 125 degC, Green (RoHS & no Sb/Br); Manufacturer: Texas Instruments; PartNumber: TPS7233QDG4; Fixed Output Options(V): 3.3; Iout(Max)(A): 0.25; Iq(Typ)(mA): 0.18; Power Good: TRUE; SubFamily: Single Channel LDO; Vdo(Typ)(mV): 360; Vin(Max)(V): 10; Vin(Min)(V): 3.98; DatasheetVersion: SLVS102G; PackageVersion: 4040047-3/M; PackageReference: D8; PackageDescription: 8-Pin Plastic Small Outline, Body 4.9 x 3.9 mm, Pitch 1.27 mm; Supplier 1: Digi-Key; Supplier Part Number 1: TPS7233QDG4-ND; Supplier 2: Mouser; Supplier Part Number 2: 595-TPS7233QDG4; Eco-Plan: Green (RoHS & no Sb/Br); Vout Adj(Max)(V): 3.3; Vout Adj(Min)(V): 3.3; Mounting Technology: Surface Mount; Code_JEDEC: MS-012; ComponentLink1Description: Manufacturer URL; ComponentLink1URL: http://www.ti.com/; ComponentLink2Description: Datasheet; ComponentLink2URL: http://www.ti.com/general/docs/lit/getliterature.tsp?genericPartNumber=TPS7233&fileType=pdf; ComponentLink3Description: Package Specification; ComponentLink3URL: http://www.ti.com/litv/pdf/msoi002j
footprint TI-D8_N (SOIC, 8-Leads, Body 4.9x3.9mm, Pitch 1.27mm, IPC Medium Density)
footprint TI-D8_L (SOIC, 8-Leads, Body 4.9x3.9mm, Pitch 1.27mm, IPC High Density)
footprint TI-D8_M (SOIC, 8-Leads, Body 4.9x3.9mm, Pitch 1.27mm, IPC Low Density)
pins: 1 SENSE (in), 2 RESET/PG, 3 GND (power), 4 ~{EN} (in), 5 IN (power), 6 IN (power), 7 OUT (power), 8 OUT (power)

## TPS7233QDR
designator U?
Single Output LDO, 250 mA, Fixed 3.3 V Output, 4 to 10 V Input, with Low IQ, 8-pin SOIC (D), -40 to 125 degC, Green (RoHS & no Sb/Br); Manufacturer: Texas Instruments; PartNumber: TPS7233QDR; Fixed Output Options(V): 3.3; Iout(Max)(A): 0.25; Iq(Typ)(mA): 0.18; Power Good: TRUE; SubFamily: Single Channel LDO; Vdo(Typ)(mV): 360; Vin(Max)(V): 10; Vin(Min)(V): 3.98; DatasheetVersion: SLVS102G; PackageVersion: 4040047-3/M; PackageReference: D8; PackageDescription: 8-Pin Plastic Small Outline, Body 4.9 x 3.9 mm, Pitch 1.27 mm; Supplier 1: Digi-Key; Supplier Part Number 1: TPS7233QDR-ND; Supplier 2: Newark; Supplier Part Number 2: 77C0836; Supplier 3: Mouser; Supplier Part Number 3: 595-TPS7233QDR; Eco-Plan: Green (RoHS & no Sb/Br); Vout Adj(Max)(V): 3.3; Vout Adj(Min)(V): 3.3; Mounting Technology: Surface Mount; Code_JEDEC: MS-012; ComponentLink1Description: Manufacturer URL; ComponentLink1URL: http://www.ti.com/; ComponentLink2Description: Datasheet; ComponentLink2URL: http://www.ti.com/general/docs/lit/getliterature.tsp?genericPartNumber=TPS7233&fileType=pdf; ComponentLink3Description: Package Specification; ComponentLink3URL: http://www.ti.com/litv/pdf/msoi002j
footprint TI-D8_N (SOIC, 8-Leads, Body 4.9x3.9mm, Pitch 1.27mm, IPC Medium Density)
footprint TI-D8_L (SOIC, 8-Leads, Body 4.9x3.9mm, Pitch 1.27mm, IPC High Density)
footprint TI-D8_M (SOIC, 8-Leads, Body 4.9x3.9mm, Pitch 1.27mm, IPC Low Density)
pins: 1 SENSE (in), 2 RESET/PG, 3 GND (power), 4 ~{EN} (in), 5 IN (power), 6 IN (power), 7 OUT (power), 8 OUT (power)

## TPS7233QDRG4
designator U?
Single Output LDO, 250 mA, Fixed 3.3 V Output, 4 to 10 V Input, with Low IQ, 8-pin SOIC (D), -40 to 125 degC, Green (RoHS & no Sb/Br); Manufacturer: Texas Instruments; PartNumber: TPS7233QDRG4; Fixed Output Options(V): 3.3; Iout(Max)(A): 0.25; Iq(Typ)(mA): 0.18; Power Good: TRUE; SubFamily: Single Channel LDO; Vdo(Typ)(mV): 360; Vin(Max)(V): 10; Vin(Min)(V): 3.98; DatasheetVersion: SLVS102G; PackageVersion: 4040047-3/M; PackageReference: D8; PackageDescription: 8-Pin Plastic Small Outline, Body 4.9 x 3.9 mm, Pitch 1.27 mm; Supplier 1: Digi-Key; Supplier Part Number 1: TPS7233QDRG4-ND; Supplier 2: Mouser; Supplier Part Number 2: 595-TPS7233QDRG4; Eco-Plan: Green (RoHS & no Sb/Br); Vout Adj(Max)(V): 3.3; Vout Adj(Min)(V): 3.3; Mounting Technology: Surface Mount; Code_JEDEC: MS-012; ComponentLink1Description: Manufacturer URL; ComponentLink1URL: http://www.ti.com/; ComponentLink2Description: Datasheet; ComponentLink2URL: http://www.ti.com/general/docs/lit/getliterature.tsp?genericPartNumber=TPS7233&fileType=pdf; ComponentLink3Description: Package Specification; ComponentLink3URL: http://www.ti.com/litv/pdf/msoi002j
footprint TI-D8_N (SOIC, 8-Leads, Body 4.9x3.9mm, Pitch 1.27mm, IPC Medium Density)
footprint TI-D8_L (SOIC, 8-Leads, Body 4.9x3.9mm, Pitch 1.27mm, IPC High Density)
footprint TI-D8_M (SOIC, 8-Leads, Body 4.9x3.9mm, Pitch 1.27mm, IPC Low Density)
pins: 1 SENSE (in), 2 RESET/PG, 3 GND (power), 4 ~{EN} (in), 5 IN (power), 6 IN (power), 7 OUT (power), 8 OUT (power)

## TPS7233QP
designator U?
Single Output LDO, 250 mA, Fixed 3.3 V Output, 4 to 10 V Input, with Low IQ, 8-pin PDIP (P), -40 to 125 degC, Pb-Free (RoHS); Manufacturer: Texas Instruments; PartNumber: TPS7233QP; Fixed Output Options(V): 3.3; Iout(Max)(A): 0.25; Iq(Typ)(mA): 0.18; Power Good: TRUE; SubFamily: Single Channel LDO; Vdo(Typ)(mV): 360; Vin(Max)(V): 10; Vin(Min)(V): 3.98; DatasheetVersion: SLVS102G; PackageVersion: 4040082/E; PackageReference: P8; PackageDescription: 8-Pin Plastic In-Line, Body 9.59 x 6.35 mm, 2.54 mm Pitch; Supplier 1: Digi-Key; Supplier Part Number 1: 296-8056-5-ND; Supplier 2: Newark; Supplier Part Number 2: 52F3988; Supplier 3: Mouser; Supplier Part Number 3: 595-TPS7233QP; Eco-Plan: Pb-Free (RoHS); Vout Adj(Max)(V): 3.3; Vout Adj(Min)(V): 3.3; Mounting Technology: Through Hole; Code_JEDEC: MS-001; ComponentLink1Description: Manufacturer URL; ComponentLink1URL: http://www.ti.com/; ComponentLink2Description: Datasheet; ComponentLink2URL: http://www.ti.com/general/docs/lit/getliterature.tsp?genericPartNumber=TPS7233&fileType=pdf; ComponentLink3Description: Package Specification; ComponentLink3URL: http://www.ti.com/litv/pdf/mpdi001b
footprint TI-P8 (DIP, 8-Leads, Body 9.59x6.35mm, Pitch 2.54mm)
pins: 1 SENSE (in), 2 RESET/PG, 3 GND (power), 4 ~{EN} (in), 5 IN (power), 6 IN (power), 7 OUT (power), 8 OUT (power)

## TPS7233QPE4
designator U?
Single Output LDO, 250 mA, Fixed 3.3 V Output, 4 to 10 V Input, with Low IQ, 8-pin PDIP (P), -40 to 125 degC, Pb-Free (RoHS); Manufacturer: Texas Instruments; PartNumber: TPS7233QPE4; Fixed Output Options(V): 3.3; Iout(Max)(A): 0.25; Iq(Typ)(mA): 0.18; Power Good: TRUE; SubFamily: Single Channel LDO; Vdo(Typ)(mV): 360; Vin(Max)(V): 10; Vin(Min)(V): 3.98; DatasheetVersion: SLVS102G; PackageVersion: 4040082/E; PackageReference: P8; PackageDescription: 8-Pin Plastic In-Line, Body 9.59 x 6.35 mm, 2.54 mm Pitch; Supplier 1: Digi-Key; Supplier Part Number 1: TPS7233QPE4-ND; Supplier 2: Mouser; Supplier Part Number 2: 595-TPS7233QPE4; Eco-Plan: Pb-Free (RoHS); Vout Adj(Max)(V): 3.3; Vout Adj(Min)(V): 3.3; Mounting Technology: Through Hole; Code_JEDEC: MS-001; ComponentLink1Description: Manufacturer URL; ComponentLink1URL: http://www.ti.com/; ComponentLink2Description: Datasheet; ComponentLink2URL: http://www.ti.com/general/docs/lit/getliterature.tsp?genericPartNumber=TPS7233&fileType=pdf; ComponentLink3Description: Package Specification; ComponentLink3URL: http://www.ti.com/litv/pdf/mpdi001b
footprint TI-P8 (DIP, 8-Leads, Body 9.59x6.35mm, Pitch 2.54mm)
pins: 1 SENSE (in), 2 RESET/PG, 3 GND (power), 4 ~{EN} (in), 5 IN (power), 6 IN (power), 7 OUT (power), 8 OUT (power)

## TPS7233QPWR
designator U?
Single Output LDO, 250 mA, Fixed 3.3 V Output, 4 to 10 V Input, with Low IQ, 8-pin TSSOP (PW), -40 to 125 degC, Green (RoHS & no Sb/Br); Manufacturer: Texas Instruments; PartNumber: TPS7233QPWR; Fixed Output Options(V): 3.3; Iout(Max)(A): 0.25; Iq(Typ)(mA): 0.18; Power Good: TRUE; SubFamily: Single Channel LDO; Vdo(Typ)(mV): 360; Vin(Max)(V): 10; Vin(Min)(V): 3.98; DatasheetVersion: SLVS102G; PackageVersion: 4040064-2/G; PackageReference: PW8; PackageDescription: 8-Pin Plastic Small Outline, Body 4.4 x 3 mm, Pitch 0.65 mm; Supplier 1: Digi-Key; Supplier Part Number 1: 296-8057-2-ND; Supplier 2: Digi-Key; Supplier Part Number 2: 296-8057-1-ND; Supplier 3: Digi-Key; Supplier Part Number 3: 296-8057-6-ND; Supplier 4: Newark; Supplier Part Number 4: 77C0837; Supplier 5: Mouser; Supplier Part Number 5: 595-TPS7233QPWR; Eco-Plan: Green (RoHS & no Sb/Br); Vout Adj(Max)(V): 3.3; Vout Adj(Min)(V): 3.3; Mounting Technology: Surface Mount; Code_JEDEC: MO-153; ComponentLink1Description: Manufacturer URL; ComponentLink1URL: http://www.ti.com/; ComponentLink2Description: Datasheet; ComponentLink2URL: http://www.ti.com/general/docs/lit/getliterature.tsp?genericPartNumber=TPS7233&fileType=pdf; ComponentLink3Description: Package Specification; ComponentLink3URL: http://www.ti.com/litv/pdf/mtss001d
footprint TI-PW8_N (SOP, 8-Leads, Body 4.4x3mm, Pitch 0.65mm, IPC Medium Density)
footprint TI-PW8_L (SOP, 8-Leads, Body 4.4x3mm, Pitch 0.65mm, IPC High Density)
footprint TI-PW8_M (SOP, 8-Leads, Body 4.4x3mm, Pitch 0.65mm, IPC Low Density)
pins: 1 SENSE (in), 2 RESET/PG (oc), 3 GND (power), 4 ~{EN} (in), 5 IN (power), 6 IN (power), 7 OUT (power), 8 OUT (power)

## TPS7233QPWRG4
designator U?
Single Output LDO, 250 mA, Fixed 3.3 V Output, 4 to 10 V Input, with Low IQ, 8-pin TSSOP (PW), -40 to 125 degC, Green (RoHS & no Sb/Br); Manufacturer: Texas Instruments; PartNumber: TPS7233QPWRG4; Fixed Output Options(V): 3.3; Iout(Max)(A): 0.25; Iq(Typ)(mA): 0.18; Power Good: TRUE; SubFamily: Single Channel LDO; Vdo(Typ)(mV): 360; Vin(Max)(V): 10; Vin(Min)(V): 3.98; DatasheetVersion: SLVS102G; PackageVersion: 4040064-2/G; PackageReference: PW8; PackageDescription: 8-Pin Plastic Small Outline, Body 4.4 x 3 mm, Pitch 0.65 mm; Supplier 1: Digi-Key; Supplier Part Number 1: TPS7233QPWRG4-ND; Supplier 2: Mouser; Supplier Part Number 2: 595-TPS7233QPWRG4; Eco-Plan: Green (RoHS & no Sb/Br); Vout Adj(Max)(V): 3.3; Vout Adj(Min)(V): 3.3; Mounting Technology: Surface Mount; Code_JEDEC: MO-153; ComponentLink1Description: Manufacturer URL; ComponentLink1URL: http://www.ti.com/; ComponentLink2Description: Datasheet; ComponentLink2URL: http://www.ti.com/general/docs/lit/getliterature.tsp?genericPartNumber=TPS7233&fileType=pdf; ComponentLink3Description: Package Specification; ComponentLink3URL: http://www.ti.com/litv/pdf/mtss001d
footprint TI-PW8_N (SOP, 8-Leads, Body 4.4x3mm, Pitch 0.65mm, IPC Medium Density)
footprint TI-PW8_L (SOP, 8-Leads, Body 4.4x3mm, Pitch 0.65mm, IPC High Density)
footprint TI-PW8_M (SOP, 8-Leads, Body 4.4x3mm, Pitch 0.65mm, IPC Low Density)
pins: 1 SENSE (in), 2 RESET/PG (oc), 3 GND (power), 4 ~{EN} (in), 5 IN (power), 6 IN (power), 7 OUT (power), 8 OUT (power)

## TPS7248QD
designator U?
Single Output LDO, 250 mA, Fixed 4.85 V Output, 5.2 to 10 V Input, with Low IQ, 8-pin SOIC (D), -40 to 125 degC, Green (RoHS & no Sb/Br); Manufacturer: Texas Instruments; PartNumber: TPS7248QD; Fixed Output Options(V): 4.85; Iout(Max)(A): 0.25; Iq(Typ)(mA): 0.18; Power Good: TRUE; SubFamily: Single Channel LDO; Vdo(Typ)(mV): 216; Vin(Max)(V): 10; Vin(Min)(V): 5.24; DatasheetVersion: SLVS102G; PackageVersion: 4040047-3/M; PackageReference: D8; PackageDescription: 8-Pin Plastic Small Outline, Body 4.9 x 3.9 mm, Pitch 1.27 mm; Supplier 1: Digi-Key; Supplier Part Number 1: 296-8058-5-ND; Supplier 2: Mouser; Supplier Part Number 2: 595-TPS7248QD; Eco-Plan: Green (RoHS & no Sb/Br); Vout Adj(Max)(V): 4.85; Vout Adj(Min)(V): 4.85; Mounting Technology: Surface Mount; Code_JEDEC: MS-012; ComponentLink1Description: Manufacturer URL; ComponentLink1URL: http://www.ti.com/; ComponentLink2Description: Datasheet; ComponentLink2URL: http://www.ti.com/general/docs/lit/getliterature.tsp?genericPartNumber=TPS7248&fileType=pdf; ComponentLink3Description: Package Specification; ComponentLink3URL: http://www.ti.com/litv/pdf/msoi002j
footprint TI-D8_N (SOIC, 8-Leads, Body 4.9x3.9mm, Pitch 1.27mm, IPC Medium Density)
footprint TI-D8_L (SOIC, 8-Leads, Body 4.9x3.9mm, Pitch 1.27mm, IPC High Density)
footprint TI-D8_M (SOIC, 8-Leads, Body 4.9x3.9mm, Pitch 1.27mm, IPC Low Density)
pins: 1 SENSE (in), 2 RESET/PG (oc), 3 GND (power), 4 ~{EN} (in), 5 IN (power), 6 IN (power), 7 OUT (power), 8 OUT (power)

## TPS7248QDG4
designator U?
Single Output LDO, 250 mA, Fixed 4.85 V Output, 5.2 to 10 V Input, with Low IQ, 8-pin SOIC (D), -40 to 125 degC, Green (RoHS & no Sb/Br); Manufacturer: Texas Instruments; PartNumber: TPS7248QDG4; Fixed Output Options(V): 4.85; Iout(Max)(A): 0.25; Iq(Typ)(mA): 0.18; Power Good: TRUE; SubFamily: Single Channel LDO; Vdo(Typ)(mV): 216; Vin(Max)(V): 10; Vin(Min)(V): 5.24; DatasheetVersion: SLVS102G; PackageVersion: 4040047-3/M; PackageReference: D8; PackageDescription: 8-Pin Plastic Small Outline, Body 4.9 x 3.9 mm, Pitch 1.27 mm; Supplier 1: Digi-Key; Supplier Part Number 1: TPS7248QDG4-ND; Supplier 2: Mouser; Supplier Part Number 2: 595-TPS7248QDG4; Eco-Plan: Green (RoHS & no Sb/Br); Vout Adj(Max)(V): 4.85; Vout Adj(Min)(V): 4.85; Mounting Technology: Surface Mount; Code_JEDEC: MS-012; ComponentLink1Description: Manufacturer URL; ComponentLink1URL: http://www.ti.com/; ComponentLink2Description: Datasheet; ComponentLink2URL: http://www.ti.com/general/docs/lit/getliterature.tsp?genericPartNumber=TPS7248&fileType=pdf; ComponentLink3Description: Package Specification; ComponentLink3URL: http://www.ti.com/litv/pdf/msoi002j
footprint TI-D8_N (SOIC, 8-Leads, Body 4.9x3.9mm, Pitch 1.27mm, IPC Medium Density)
footprint TI-D8_L (SOIC, 8-Leads, Body 4.9x3.9mm, Pitch 1.27mm, IPC High Density)
footprint TI-D8_M (SOIC, 8-Leads, Body 4.9x3.9mm, Pitch 1.27mm, IPC Low Density)
pins: 1 SENSE (in), 2 RESET/PG (oc), 3 GND (power), 4 ~{EN} (in), 5 IN (power), 6 IN (power), 7 OUT (power), 8 OUT (power)

## TPS7248QDR
designator U?
Single Output LDO, 250 mA, Fixed 4.85 V Output, 5.2 to 10 V Input, with Low IQ, 8-pin SOIC (D), -40 to 125 degC, Green (RoHS & no Sb/Br); Manufacturer: Texas Instruments; PartNumber: TPS7248QDR; Fixed Output Options(V): 4.85; Iout(Max)(A): 0.25; Iq(Typ)(mA): 0.18; Power Good: TRUE; SubFamily: Single Channel LDO; Vdo(Typ)(mV): 216; Vin(Max)(V): 10; Vin(Min)(V): 5.24; DatasheetVersion: SLVS102G; PackageVersion: 4040047-3/M; PackageReference: D8; PackageDescription: 8-Pin Plastic Small Outline, Body 4.9 x 3.9 mm, Pitch 1.27 mm; Supplier 1: Digi-Key; Supplier Part Number 1: TPS7248QDR-ND; Supplier 2: Mouser; Supplier Part Number 2: 595-TPS7248QDR; Eco-Plan: Green (RoHS & no Sb/Br); Vout Adj(Max)(V): 4.85; Vout Adj(Min)(V): 4.85; Mounting Technology: Surface Mount; Code_JEDEC: MS-012; ComponentLink1Description: Manufacturer URL; ComponentLink1URL: http://www.ti.com/; ComponentLink2Description: Datasheet; ComponentLink2URL: http://www.ti.com/general/docs/lit/getliterature.tsp?genericPartNumber=TPS7248&fileType=pdf; ComponentLink3Description: Package Specification; ComponentLink3URL: http://www.ti.com/litv/pdf/msoi002j
footprint TI-D8_N (SOIC, 8-Leads, Body 4.9x3.9mm, Pitch 1.27mm, IPC Medium Density)
footprint TI-D8_L (SOIC, 8-Leads, Body 4.9x3.9mm, Pitch 1.27mm, IPC High Density)
footprint TI-D8_M (SOIC, 8-Leads, Body 4.9x3.9mm, Pitch 1.27mm, IPC Low Density)
pins: 1 SENSE (in), 2 RESET/PG (oc), 3 GND (power), 4 ~{EN} (in), 5 IN (power), 6 IN (power), 7 OUT (power), 8 OUT (power)

## TPS7248QDRG4
designator U?
Single Output LDO, 250 mA, Fixed 4.85 V Output, 5.2 to 10 V Input, with Low IQ, 8-pin SOIC (D), -40 to 125 degC, Green (RoHS & no Sb/Br); Manufacturer: Texas Instruments; PartNumber: TPS7248QDRG4; Fixed Output Options(V): 4.85; Iout(Max)(A): 0.25; Iq(Typ)(mA): 0.18; Power Good: TRUE; SubFamily: Single Channel LDO; Vdo(Typ)(mV): 216; Vin(Max)(V): 10; Vin(Min)(V): 5.24; DatasheetVersion: SLVS102G; PackageVersion: 4040047-3/M; PackageReference: D8; PackageDescription: 8-Pin Plastic Small Outline, Body 4.9 x 3.9 mm, Pitch 1.27 mm; Supplier 1: Digi-Key; Supplier Part Number 1: TPS7248QDRG4-ND; Supplier 2: Mouser; Supplier Part Number 2: 595-TPS7248QDRG4; Eco-Plan: Green (RoHS & no Sb/Br); Vout Adj(Max)(V): 4.85; Vout Adj(Min)(V): 4.85; Mounting Technology: Surface Mount; Code_JEDEC: MS-012; ComponentLink1Description: Manufacturer URL; ComponentLink1URL: http://www.ti.com/; ComponentLink2Description: Datasheet; ComponentLink2URL: http://www.ti.com/general/docs/lit/getliterature.tsp?genericPartNumber=TPS7248&fileType=pdf; ComponentLink3Description: Package Specification; ComponentLink3URL: http://www.ti.com/litv/pdf/msoi002j
footprint TI-D8_N (SOIC, 8-Leads, Body 4.9x3.9mm, Pitch 1.27mm, IPC Medium Density)
footprint TI-D8_L (SOIC, 8-Leads, Body 4.9x3.9mm, Pitch 1.27mm, IPC High Density)
footprint TI-D8_M (SOIC, 8-Leads, Body 4.9x3.9mm, Pitch 1.27mm, IPC Low Density)
pins: 1 SENSE (in), 2 RESET/PG (oc), 3 GND (power), 4 ~{EN} (in), 5 IN (power), 6 IN (power), 7 OUT (power), 8 OUT (power)

## TPS7248QP
designator U?
Single Output LDO, 250 mA, Fixed 4.85 V Output, 5.2 to 10 V Input, with Low IQ, 8-pin PDIP (P), -40 to 125 degC, Pb-Free (RoHS); Manufacturer: Texas Instruments; PartNumber: TPS7248QP; Fixed Output Options(V): 4.85; Iout(Max)(A): 0.25; Iq(Typ)(mA): 0.18; Power Good: TRUE; SubFamily: Single Channel LDO; Vdo(Typ)(mV): 216; Vin(Max)(V): 10; Vin(Min)(V): 5.24; DatasheetVersion: SLVS102G; PackageVersion: 4040082/E; PackageReference: P8; PackageDescription: 8-Pin Plastic In-Line, Body 9.59 x 6.35 mm, 2.54 mm Pitch; Supplier 1: Digi-Key; Supplier Part Number 1: 296-2659-5-ND; Supplier 2: Mouser; Supplier Part Number 2: 595-TPS7248QP; Eco-Plan: Pb-Free (RoHS); Vout Adj(Max)(V): 4.85; Vout Adj(Min)(V): 4.85; Mounting Technology: Through Hole; Code_JEDEC: MS-001; ComponentLink1Description: Manufacturer URL; ComponentLink1URL: http://www.ti.com/; ComponentLink2Description: Datasheet; ComponentLink2URL: http://www.ti.com/general/docs/lit/getliterature.tsp?genericPartNumber=TPS7248&fileType=pdf; ComponentLink3Description: Package Specification; ComponentLink3URL: http://www.ti.com/litv/pdf/mpdi001b
footprint TI-P8 (DIP, 8-Leads, Body 9.59x6.35mm, Pitch 2.54mm)
pins: 1 SENSE (in), 2 RESET/PG (oc), 3 GND (power), 4 ~{EN} (in), 5 IN (power), 6 IN (power), 7 OUT (power), 8 OUT (power)

## TPS7248QPE4
designator U?
Single Output LDO, 250 mA, Fixed 4.85 V Output, 5.2 to 10 V Input, with Low IQ, 8-pin PDIP (P), -40 to 125 degC, Pb-Free (RoHS); Manufacturer: Texas Instruments; PartNumber: TPS7248QPE4; Fixed Output Options(V): 4.85; Iout(Max)(A): 0.25; Iq(Typ)(mA): 0.18; Power Good: TRUE; SubFamily: Single Channel LDO; Vdo(Typ)(mV): 216; Vin(Max)(V): 10; Vin(Min)(V): 5.24; DatasheetVersion: SLVS102G; PackageVersion: 4040082/E; PackageReference: P8; PackageDescription: 8-Pin Plastic In-Line, Body 9.59 x 6.35 mm, 2.54 mm Pitch; Supplier 1: Digi-Key; Supplier Part Number 1: TPS7248QPE4-ND; Supplier 2: Mouser; Supplier Part Number 2: 595-TPS7248QPE4; Eco-Plan: Pb-Free (RoHS); Vout Adj(Max)(V): 4.85; Vout Adj(Min)(V): 4.85; Mounting Technology: Through Hole; Code_JEDEC: MS-001; ComponentLink1Description: Manufacturer URL; ComponentLink1URL: http://www.ti.com/; ComponentLink2Description: Datasheet; ComponentLink2URL: http://www.ti.com/general/docs/lit/getliterature.tsp?genericPartNumber=TPS7248&fileType=pdf; ComponentLink3Description: Package Specification; ComponentLink3URL: http://www.ti.com/litv/pdf/mpdi001b
footprint TI-P8 (DIP, 8-Leads, Body 9.59x6.35mm, Pitch 2.54mm)
pins: 1 SENSE (in), 2 RESET/PG (oc), 3 GND (power), 4 ~{EN} (in), 5 IN (power), 6 IN (power), 7 OUT (power), 8 OUT (power)